# EAGLE library part CM108 (library ruark2)
CM108 USB Audio
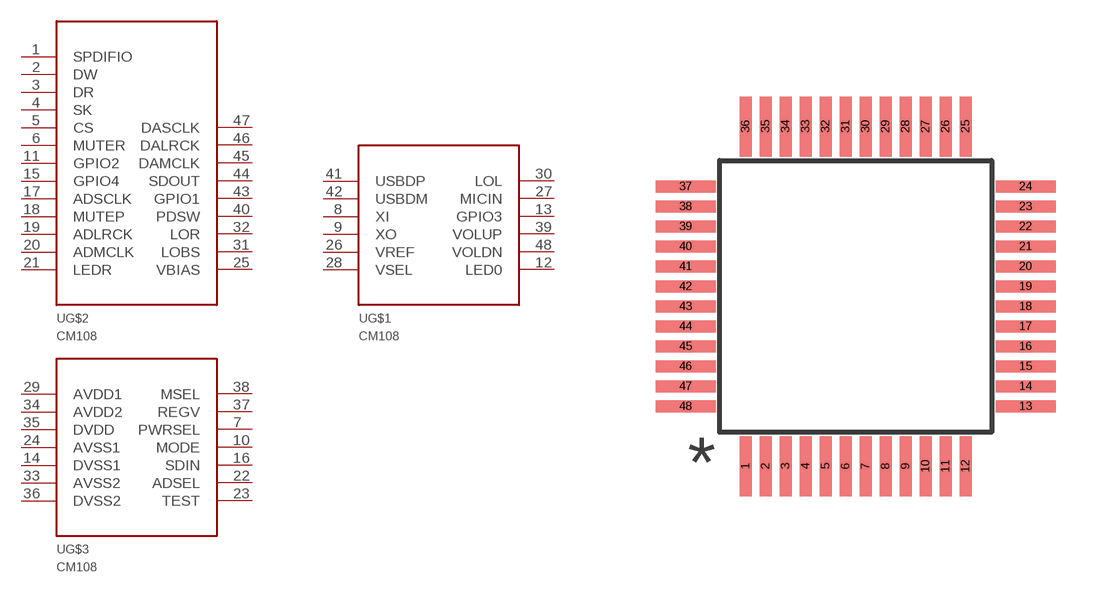
[diagram p83: symbol with the pads of LQFP48; footprint LQFP48]

Designator prefix U; gates G$1=CM108 G$2=CM108_NC G$3=CM108_PWR

## CM108  [LQFP48]
1  G$2:SPDIFIO
2  G$2:DW
3  G$2:DR
4  G$2:SK
5  G$2:CS
6  G$2:MUTER
7  G$3:PWRSEL
8  G$1:XI
9  G$1:XO
10  G$3:MODE
11  G$2:GPIO2
12  G$1:LED0
13  G$1:GPIO3
14  G$3:DVSS1
15  G$2:GPIO4
16  G$3:SDIN
17  G$2:ADSCLK
18  G$2:MUTEP
19  G$2:ADLRCK
20  G$2:ADMCLK
21  G$2:LEDR
22  G$3:ADSEL
23  G$3:TEST
24  G$3:AVSS1
25  G$2:VBIAS
26  G$1:VREF
27  G$1:MICIN
28  G$1:VSEL
29  G$3:AVDD1
30  G$1:LOL
31  G$2:LOBS
32  G$2:LOR
33  G$3:AVSS2
34  G$3:AVDD2
35  G$3:DVDD
36  G$3:DVSS2
37  G$3:REGV
38  G$3:MSEL
39  G$1:VOLUP
40  G$2:PDSW
41  G$1:USBDP
42  G$1:USBDM
43  G$2:GPIO1
44  G$2:SDOUT
45  G$2:DAMCLK
46  G$2:DALRCK
47  G$2:DASCLK
48  G$1:VOLDN

## Footprint LQFP48 (pad centres in mm)
smd 0.3 x 1.5: 1 -2.75,-4.25; 2 -2.25,-4.25; 3 -1.75,-4.25; 4 -1.25,-4.25; 5 -0.75,-4.25; 6 -0.25,-4.25; 7 0.25,-4.25; 8 0.75,-4.25; 9 1.25,-4.25; 10 1.75,-4.25; 11 2.25,-4.25; 12 2.75,-4.25; 25 2.75,4.25; 26 2.25,4.25; 27 1.75,4.25; 28 1.25,4.25; 29 0.75,4.25; 30 0.25,4.25; 31 -0.25,4.25; 32 -0.75,4.25; 33 -1.25,4.25; 34 -1.75,4.25; 35 -2.25,4.25; 36 -2.75,4.25
smd 1.5 x 0.3: 13 4.25,-2.75; 14 4.25,-2.25; 15 4.25,-1.75; 16 4.25,-1.25; 17 4.25,-0.75; 18 4.25,-0.25; 19 4.25,0.25; 20 4.25,0.75; 21 4.25,1.25; 22 4.25,1.75; 23 4.25,2.25; 24 4.25,2.75; 37 -4.25,2.75; 38 -4.25,2.25; 39 -4.25,1.75; 40 -4.25,1.25; 41 -4.25,0.75; 42 -4.25,0.25; 43 -4.25,-0.25; 44 -4.25,-0.75; 45 -4.25,-1.25; 46 -4.25,-1.75; 47 -4.25,-2.25; 48 -4.25,-2.75